# Altium integrated library Transistor.IntLib: 34 symbols
Pins are listed as number, name and electrical type; pins without a type are passive.

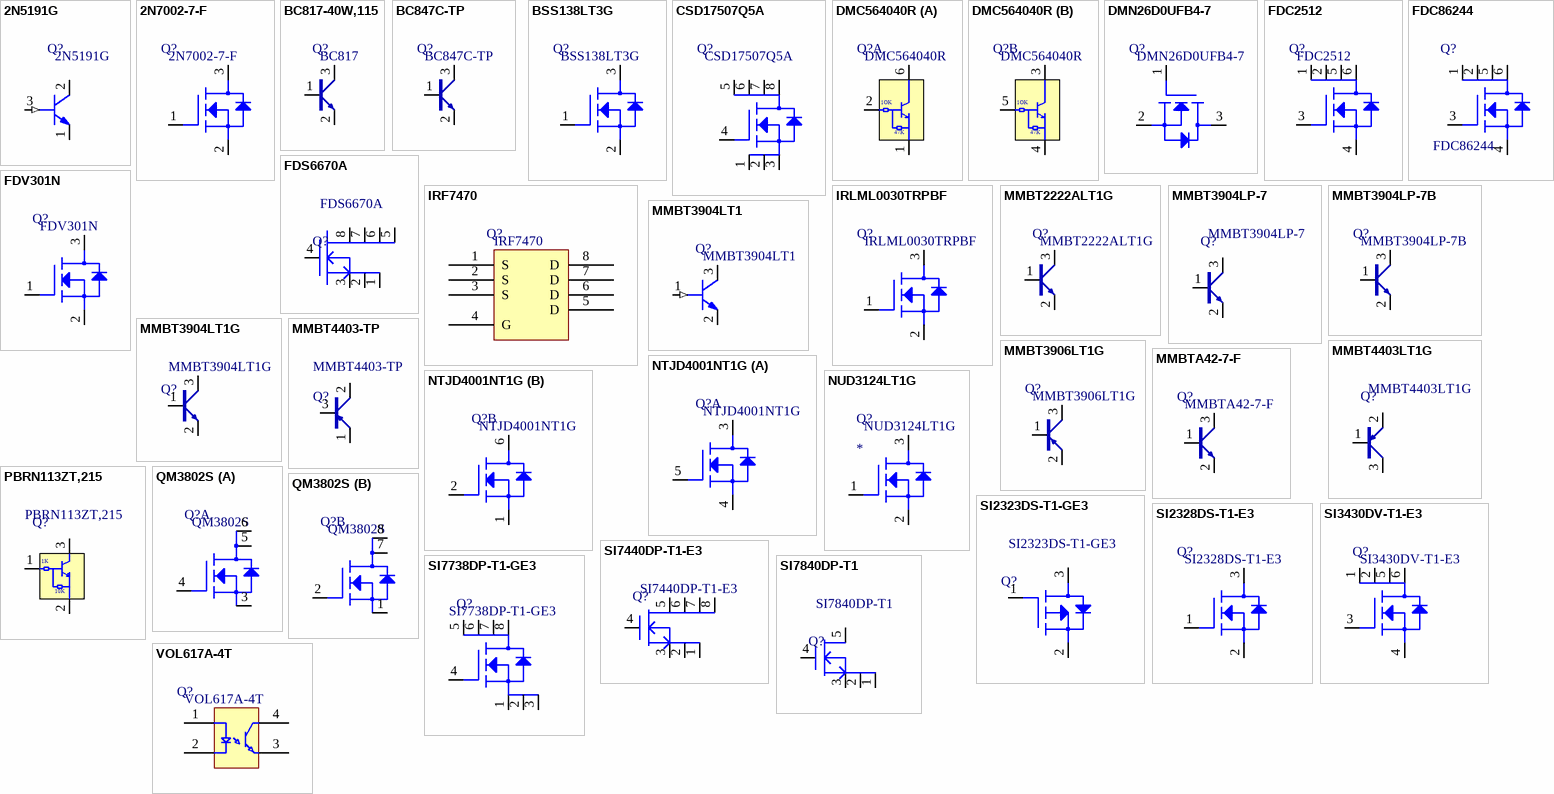
[diagram p0: symbols 2N5191G to VOL617A-4T]

## 2N5191G
designator Q?  MPN: 2N5191G  (hidden comment: *)
Bipolar Transistors - BJT 4A 60V 40W NPN; MFT: ON Semiconductor; TYPE: Through Hole; VALUE: 2N5191G
footprint TO-225-3
pins: 1 EMITTER, 2 COLLECTOR, 3 BASE (in)

## 2N7002-7-F
designator Q?  MPN: 2N7002-7-F  (hidden comment: *)
MOSFET N-CH 60V 115MA SOT23-3; MFT: Diodes Incorporated; TYPE: Surface Mount; VALUE: 2N7002-7-F
footprint SOT-23
pins: 1 gate, 2 source, 3 drain

## BC817-40W,115
designator Q?  MPN: BC817  (hidden comment: *)
Bipolar Transistors - BJT Gen Pur Trans NPN,0.8A,45V; MFT: Rectron; TYPE: Surface Mount; VALUE: Rectron
footprint SOT-323
pins: 1  base, 2 emitter, 3 collector

## BC847C-TP
designator Q?  MPN: BC847C-TP  (hidden comment: *)
TRANS NPN 45V 0.1A SOT23; MFT: Micro Commercial Co; TYPE: SMD; VALUE: BC847C-TP; LOAD: *
footprint SOT-23
pins: 1  base, 2 emitter, 3 collector

## BSS138LT3G
designator Q?  MPN: BSS138LT3G  (hidden comment: *)
MOSFET N-CH 50V 200MA SOT-23; MFT: On Semi; VALUE: BSS138LT3G; TYPE: Surface Mount
footprint SOT_23_321
pins: 1 gate, 2 source, 3 drain

## CSD17507Q5A
designator Q?  MPN: CSD17507Q5A  (hidden comment: *)
MOSFET N-CH 30V 65A 8SON; MFT: Texas Instruments; VALUE: CSD17507Q5A; TYPE: SMD; LOAD: *
footprint 8-PowerTDFN
pins: 1, 2, 3, 4, 5, 6, 7, 8

## DMC564040R
designator Q?  MPN: DMC564040R  (hidden comment: *)
TRANS PREBIAS DUAL NPN SMINI6; MFT: Panasonic Electronic Components; VALUE: DMC564040R; TYPE: SMD; RATING: *; LOAD: *
footprint 6-SMD, Flat Leads
part A pins: 1, 2, 6
part B pins: 3, 4, 5
part A text: 1OK; 47K
part B text: 1OK; 47K

## DMN26D0UFB4-7
designator Q?  MPN: DMN26D0UFB4-7  (hidden comment: *)
MOSFET N-CH 20V 230MA DFN; MFT: Diodes Incorporated; VALUE: DMN26D0UFB4-7; TYPE: SMD; LOAD: *
footprint DFET_003_SMD_010X006_B
pins: 1 G, 2 S, 3 D

## FDC2512
designator Q?  MPN: FDC2512  (hidden comment: *)
MOSFET 150V NCh PowerTrench; MFT: Fairchild Semiconductor; VALUE: FDC2512; TYPE: SMD; LOAD: *
footprint SOT-23-6 Thin
pins: 1, 2, 3, 4, 5, 6

## FDC86244
designator Q?  MPN: FDC86244  (hidden comment: *)
MOSFET N-CH 150V 2.3A 6SSOT; MFT: Fairchild Semiconductor; VALUE: FDC86244; TYPE: SMD; LOAD: *
footprint SOT-23-6
pins: 1, 2, 3, 4, 5, 6

## FDS6670A
designator Q?  MPN: FDS6670A  (hidden comment: *)
MOSFET SO-8 N-CH 30V; TYPE: SMD/SMT; VALUE: FDS6670A; MFT: Fairchild Semiconductor
footprint SOIC-8
pins: 1 S, 2 S, 3 S, 4 G, 5 D, 6 D, 7 D, 8 D

## FDV301N
designator Q?  MPN: FDV301N  (hidden comment: *)
MOSFET N-CH 25V 220MA SOT-23; MFT: Fairchild Semiconductor; VALUE: FDV301N; TYPE: SMD; LOAD: *
footprint SOT-23
pins: 1 G, 2 S, 3 D

## IRF7470
designator Q?  MPN: IRF7470  (hidden comment: *)
MOSFET, N-CHAN, 10A,  Rds=13 mohm; TYPE: Surface Mount; VALUE: IRF7470; MFT: International Rectifier
footprint SOIC-8
pins: 1 S, 2 S, 3 S, 4 G, 5 D, 6 D, 7 D, 8 D

## IRLML0030TRPBF
designator Q?  MPN: IRLML0030TRPBF  (hidden comment: *)
MOSFET N-CH 30V 5.3A SOT-23-3; MFT: Infineon Technologies Americas Corp.; VALUE: IRLML0030TRPBF; TYPE: SMD; LOAD: *
footprint SOT-23-3
pins: 1 gate, 2 source, 3 drain

## MMBT2222ALT1G
designator Q?  MPN: MMBT2222ALT1G  (hidden comment: *)
TRANS NPN 40V 0.6A SOT23; MFT: ON Semiconductor; TYPE: Surface Mount; VALUE: MMBT2222ALT1G
footprint SOT-23-3
pins: 1 base, 2 emmiter, 3 collector

## MMBT3904LP-7
designator Q?  MPN: MMBT3904LP-7  (hidden comment: *)
TRANS NPN 40V 0.2A DFN1006-3; MFT: Diodes Incorporated; VALUE: MMBT3904LP-7; TYPE: Surface Mount
footprint 3-UFDFN
pins: 1 base, 2 emitter, 3 collector

## MMBT3904LP-7B
designator Q?  MPN: MMBT3904LP-7B  (hidden comment: *)
TRANS NPN 40V 0.2A DFN1006-3; MFT: Diodes Incorporated; VALUE: MMBT3904LP-7B; TYPE: SMD; LOAD: *
footprint 3-UFDFN
pins: 1 base, 2 emmiter, 3 collector

## MMBT3904LT1
designator Q?  MPN: MMBT3904LT1  (hidden comment: *)
NPN, GPSS, MMBT3904, SOT23; MFT: ON Semiconductor; VALUE: MMBT3904LT1; TYPE: Surface Mount
footprint SOT-23
pins: 1 BASE (in), 2 EMITTER, 3 COLLECTOR

## MMBT3904LT1G
designator Q?  MPN: MMBT3904LT1G  (hidden comment: *)
TRANS NPN 40V 0.2A SOT-23; MFT: ON Semiconductor; TYPE: Surface Mount; VALUE: MMBT3904LT1G
footprint SOT-23
pins: 1 base, 2 emitter, 3 collector

## MMBT3906LT1G
designator Q?  MPN: MMBT3906LT1G  (hidden comment: *)
TRANS PNP 40V 0.2A SOT23; MFT: ON Semiconductor; VALUE: MMBT3906LT1G; TYPE: SMD; LOAD: *
footprint SOT-23-3
pins: 1 base, 2 emmiter, 3 collector

## MMBT4403-TP
designator Q?  MPN: MMBT4403-TP  (hidden comment: *)
TRANS PNP 40V 0.6A SOT23; MFT: Micro Commercial Co; TYPE: Surface Mount; VALUE: MMBT4403-TP
footprint SOT-23
pins: 1 emitter, 2 collector, 3  base

## MMBT4403LT1G
designator Q?  MPN: MMBT4403LT1G  (hidden comment: *)
TRANS PNP 40V 0.6A SOT23; MFT: ON Semiconductor; VALUE: MMBT4403LT1G; TYPE: Surface Mount
footprint SOT-23
pins: 1 base, 2 emitter, 3 collector

## MMBTA42-7-F
designator Q?  MPN: MMBTA42-7-F  (hidden comment: *)
TRANS NPN 300V 0.5A SOT23-3; MFT: Diodes Incorporated; VALUE: MMBTA42-7-F; TYPE: SMD; LOAD: *
footprint SOT-23-3
pins: 1 emitter, 2 collector, 3  base

## NTJD4001NT1G
designator Q?  MPN: NTJD4001NT1G  (hidden comment: *)
MOSFET 2N-CH 30V 0.25A SOT-363; MFT: ON Semiconductor; VALUE: NTJD4001NT1G; TYPE: SMD; LOAD: *
footprint SC70_6
part A pins: 3 D2, 4 S2, 5 G2
part B pins: 1 S1, 2 G1, 6 D1

## NUD3124LT1G
designator Q?  MPN: NUD3124LT1G
IC INDCT LOAD DRVR AUTO SOT23; MFT: ON Semiconductor; TYPE: Surface Mount; VALUE: NUD3124LT1G
footprint SOT-23-3
pins: 1 gate, 2 source, 3 drain

## PBRN113ZT,215
designator Q?  value PBRN113ZT,215  (hidden comment: *)
TRANS PREBIAS NPN 250MW TO236AB; MFT: Nexperia USA; TYPE: SMD; MPN: PBRN113ZT,215; APN: *; LOAD: *; RATING: 250mW
footprint SOT95P230X110-3N
pins: 1 base, 2 emitter, 3 collector
text: 1K; 10K

## QM3802S
designator Q?  MPN: QM3802S  (hidden comment: *)
XSTR DAUL N-CH FAST SWITCHING MOSFETS 30V DIE 1 14A DIE 2 18A SOP8; MFT: UBIQ Semiconductor Corp.; VALUE: QM3802S; TYPE: Surface Mount
footprint SOP 8
part A pins: 3 source, 4 gate, 5 drain, 6 drain
part B pins: 1 source, 2 gate, 7 drain, 8 drain

## SI2323DS-T1-GE3
designator Q?  MPN: SI2323DS-T1-GE3  (hidden comment: *)
MOSFET P-CH 20V 3.7A SOT23-3; MFT: Vishay Siliconix; TYPE: Surface Mount; VALUE: SI2323DS-T1-GE3
footprint SOT-23
pins: 1 gate, 2 source, 3 drain

## SI2328DS-T1-E3
designator Q?  MPN: SI2328DS-T1-E3  (hidden comment: *)
MOSFET N-CH 100V 1.15A SOT23-3; MFT: Vishay Siliconix; VALUE: SI2328DS-T1-E3; TYPE: SMD; LOAD: *
footprint SOT-23-3
pins: 1 gate, 2 source, 3 drain

## SI3430DV-T1-E3
designator Q?  MPN: SI3430DV-T1-E3  (hidden comment: *)
MOSFET N-CH 100V 1.8A 6-TSOP; MFT: Vishay Siliconix; TYPE: Surface Mount; VALUE: SI3430DV-T1-E3
footprint SOT-23-6 Thin
pins: 1 Drain, 2 Drain, 3 Gate, 4 Source, 5 Drain, 6 Drain

## SI7440DP-T1-E3
designator Q?  MPN: SI7440DP-T1-E3  (hidden comment: *)
MOSFET N-CH 30V 12A PPAK SO-8; MFT: Vishay Siliconix; TYPE: Surface Mount; VALUE: SI7440DP-T1-E3
footprint PowerPAK® SO-8
pins: 1 S, 2 S, 3 S, 4 G, 5 D, 6 D, 7 D, 8 D

## SI7738DP-T1-GE3
designator Q?  MPN: SI7738DP-T1-GE3  (hidden comment: *)
MOSFET N-CH 150V 30A PPAK SO-8; MFT: Vishay Siliconix; TYPE: Surface Mount; VALUE: SI7738DP-T1-GE3
footprint PowerPAK® SO-8
pins: 1 Source, 2 Source, 3 Source, 4 Gate, 5 Drain, 6 Drain, 7 Drain, 8 Drain

## SI7840DP-T1
designator Q?  MPN: SI7840DP-T1  (hidden comment: *)
MOSFET 30V 18A 5W; MFT: Vishay / Siliconix; TYPE: SMD/SMT; VALUE: SI7840DP-T1
footprint PowerPAK® SO-8
pins: 1 S, 2 S, 3 S, 4 G, 5 D

## VOL617A-4T
designator Q?  MPN: VOL617A-4T  (hidden comment: *)
OPTOISOLATOR 5KV TRANS 4-LSOP; MFT: Vishay Semiconductor Opto Division; TYPE: Surface Mount; VALUE: VOL617A-4T
footprint LSOP 4
pins: 1 A, 2 C, 3 E, 4 C